# EAGLE library part MOTOR-DRIVER-DRV8871 (library FlashPCB_ICs)
DRV8871 - Unipolar Motor Driver NMOS PWM 8-SO PowerPad Technical Specifications: H-Bridge Motor Driver Suitable for 1x DC Motor, or 1x Winding of Stepper Motor Qualified for Automotive Use Supply Voltage: 6.8V~45V PWM Control Interface Integrated Protection Features: VM Undervoltage Lockout, Overcurrent Protection, Thermal Shutdown, Automatic Fault Recovery Component Search: DRV8871 <https://www.flashpcb.com/components> Datasheet: DRV8871-Q1 3.6-A Brushed DC Motor Driver With Internal Current Sense (PWM Control) datasheet <https://www.ti.com/lit/ds/symlink/drv8871-q1.pdf?HQS=dis-dk-null-digikeymode-dsf-pf-null-wwe&ts=1682435193818&ref_url=https%253A%252F%252Fwww.ti.com%252Fgeneral%252Fdocs%252Fsuppproductinfo.tsp%253FdistId%253D10%2526gotoUrl%253Dhttps%253A%252F%252Fwww.ti.com%252Flit%252Fgpn%252Fdrv8871-q1>
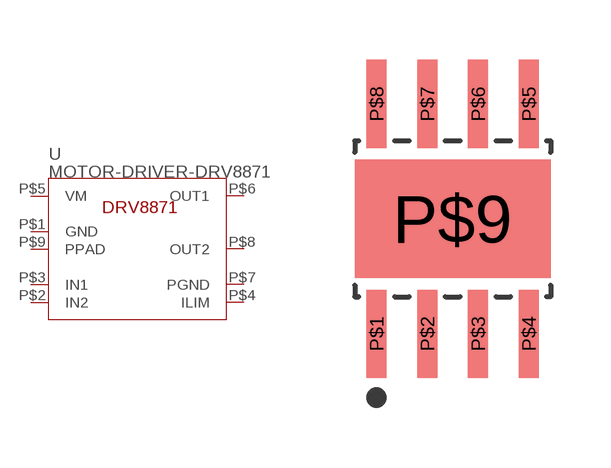
[diagram p64: symbol with the pads of 8-HSOP; footprint 8-HSOP]

Designator prefix U

## MOTOR-DRIVER-DRV8871DSS  [8-HSOP]
P$1  GND
P$2  IN2
P$3  IN1
P$4  ILIM
P$5  VM
P$6  OUT1
P$7  PGND
P$8  OUT2
P$9  PPAD

## Footprint 8-HSOP (pad centres in mm)
smd 0.5 x 2.2: P$1 -1.905,-2.875; P$2 -0.635,-2.875; P$3 0.635,-2.875; P$4 1.905,-2.875; P$5 1.905,2.875; P$6 0.635,2.875; P$7 -0.635,2.875; P$8 -1.905,2.875
smd 4.9 x 2.95: P$9 0,0